# Altium footprint library RAK3172.PcbLib: 2 footprints
Each footprint in its own frame and in the unit in brackets; x right, y up, seen from the top. Pads: shape width x height; smd on the part's side, far side on the other; paste and mask are expansions set on the pad; w line width, h text height; cw(c..) or ccw(c..) is an arc to the next point about the centre after c.
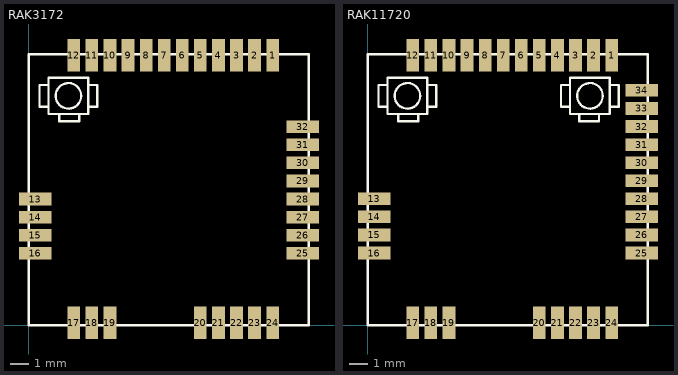
[diagram p0: the footprints below, top view; thin cyan lines are the x and y axes]

## RAK3172 [mm]
pads (32):
  rect 0.7x1.8 smd: 1(13.5,14.945) 2(12.5,14.945) 3(11.5,14.945) 4(10.5,14.945) 5(9.5,14.945) 6(8.5,14.945) 7(7.5,14.945) 8(6.5,14.945) 9(5.5,14.945) 10(4.5,14.945) 11(3.5,14.945) 12(2.5,14.945) 17(2.5,0.145) 18(3.5,0.145) 19(4.5,0.145) 20(9.5,0.145) 21(10.5,0.145) 22(11.5,0.145) 23(12.5,0.145) 24(13.5,0.145)
  rect 1.8x0.7 smd: 13(0.365,6.99) 14(0.365,5.99) 15(0.365,4.99) 16(0.365,3.99) 25(15.165,3.99) 26(15.165,4.99) 27(15.165,5.99) 28(15.165,6.99) 29(15.165,7.99) 30(15.165,8.99) 31(15.165,9.99) 32(15.165,10.99)
Top Overlay:
  circle w0.127: c2.2,12.7 r0.707
  lines w0.127: 1.1,12.1 0.6,12.1 0.6,13.3 1.1,13.3 ; 1.1,12.1 1.1,13.3 ; 1.1,12.1 1.1,11.7 1.7,11.7 ; 1.1,13.3 1.1,13.7 3.3,13.7 3.3,13.3 ; 1.7,11.7 2.8,11.7 ; 1.7,11.7 1.7,11.3 2.8,11.3 2.8,11.7 ; 2.8,11.7 3.3,11.7 3.3,12.1 ; 3.3,12.1 3.3,13.3 ; 3.3,12.1 3.8,12.1 3.8,13.3 3.3,13.3 ; 0,0 15.5,0 15.5,15 0,15 0,0
3D body "3D_RAK11720.step": height 3.5, standoff 0, extent 0,0 15.5,15

## RAK11720 [mm]
pads (34):
  rect 0.7x1.8 smd: 1(13.5,14.945) 2(12.5,14.945) 3(11.5,14.945) 4(10.5,14.945) 5(9.5,14.945) 6(8.5,14.945) 7(7.5,14.945) 8(6.5,14.945) 9(5.5,14.945) 10(4.5,14.945) 11(3.5,14.945) 12(2.5,14.945) 17(2.5,0.145) 18(3.5,0.145) 19(4.5,0.145) 20(9.5,0.145) 21(10.5,0.145) 22(11.5,0.145) 23(12.5,0.145) 24(13.5,0.145)
  rect 1.8x0.7 smd: 13(0.365,7) 14(0.365,6) 15(0.365,5) 16(0.365,4) 25(15.165,4) 26(15.165,5) 27(15.165,6) 28(15.165,7) 29(15.165,8) 30(15.165,9) 31(15.165,10) 32(15.165,11) 33(15.165,12) 34(15.165,13)
Top Overlay:
  circle w0.127: c2.2,12.7 r0.707
  circle w0.127: c12.3,12.7 r0.707
  lines w0.127: 1.1,12.1 0.6,12.1 0.6,13.3 1.1,13.3 ; 1.1,12.1 1.1,13.3 ; 1.1,12.1 1.1,11.7 1.7,11.7 ; 1.1,13.3 1.1,13.7 3.3,13.7 3.3,13.3 ; 1.7,11.7 2.8,11.7 ; 1.7,11.7 1.7,11.3 2.8,11.3 2.8,11.7 ; 2.8,11.7 3.3,11.7 3.3,12.1 ; 3.3,12.1 3.3,13.3 ; 3.3,12.1 3.8,12.1 3.8,13.3 3.3,13.3 ; 11.2,12.1 11.2,13.3 ; 11.2,12.1 11.2,11.7 11.7,11.7 ; 11.2,12.1 10.7,12.1 10.7,13.3 11.2,13.3 ; 11.2,13.3 11.2,13.7 13.4,13.7 13.4,13.3 ; 11.7,11.7 12.8,11.7 ; 11.7,11.7 11.7,11.3 12.8,11.3 12.8,11.7 ; 12.8,11.7 13.4,11.7 13.4,12.1 ; 13.4,12.1 13.9,12.1 13.9,13.3 13.4,13.3 ; 13.4,12.1 13.4,13.3 ; 0,0 15.5,0 15.5,15 0,15 0,0
3D body "3D_RAK11720.step": height 3.5, standoff 0, extent 0,0 15.5,15